# Altium footprint library CWF-3.PcbLib: 1 footprints
Each footprint in its own frame and in the unit in brackets; x right, y up, seen from the top. Pads: shape width x height; smd on the part's side, far side on the other; paste and mask are expansions set on the pad; w line width, h text height; cw(c..) or ccw(c..) is an arc to the next point about the centre after c.
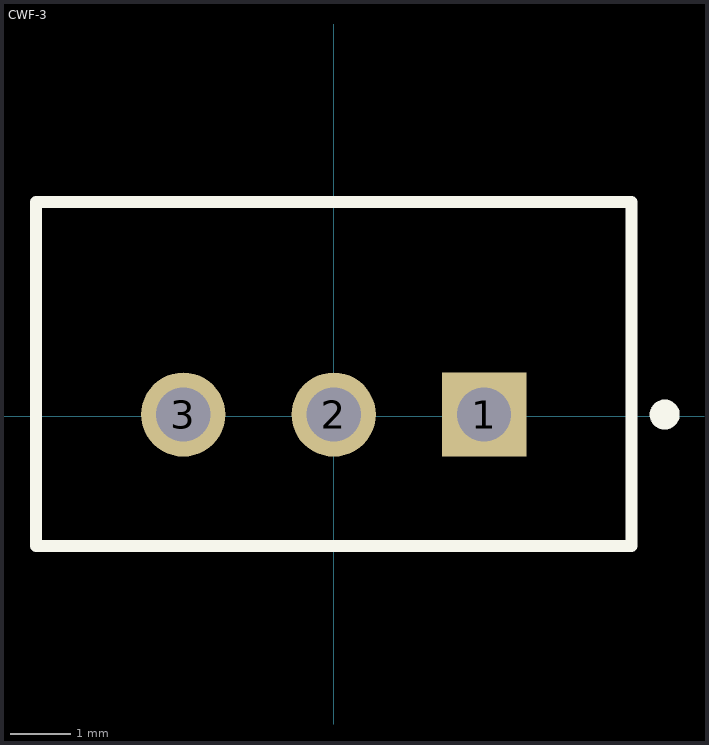
[diagram p0: the footprint, top view; thin cyan lines are the x and y axes]

## CWF-3 [mm]
pads (3):
  rect 1.4x1.4 hole 0.9 paste-2539.97 mask+0: 1(2.5,0.025)
  round 1.4 hole 0.9 paste-2539.97 mask+0: 2(0,0.025) 3(-2.5,0.025)
Top Overlay:
  circle w0.25: c5.5,0.025 r0.125
  lines w0.2: -4.95,-2.159 4.95,-2.159 4.95,3.556 -4.95,3.556 -4.95,-2.159
Top Assembly:
  text ".Designator" at 0,-0.001 h1
Top Component Center:
  lines w0.1: -0.5,0 0.5,0 ; 0,-0.5 0,0.5
3D body "DS1069-3 CWF-3.stp": height 7, standoff -3.5, extent -5,-2.175 5,3.575